# EAGLE library part CC-DEBUGGER (library BaseApp)
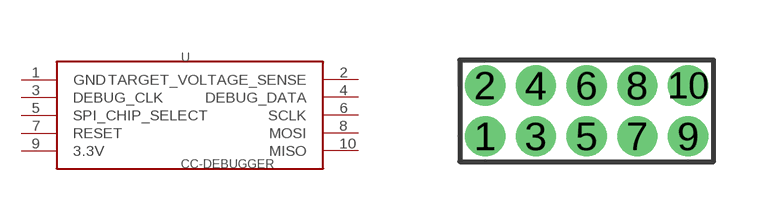
[diagram p105: symbol with the pads of PINHEAD-2X5-1.5MMPITCH; footprint PINHEAD-2X5-1.5MMPITCH]

Designator prefix -

## CC-DEBUGGER  [PINHEAD-2X5-1.5MMPITCH]
1  GND
2  TARGET_VOLTAGE_SENSE
3  DEBUG_CLK
4  DEBUG_DATA
5  SPI_CHIP_SELECT
6  SCLK
7  RESET
8  MOSI
9  3.3V
10  MISO

## Footprint PINHEAD-2X5-1.5MMPITCH (pad centres in mm)
drill 0.5: 1 -2.54,-0.635; 2 -2.54,0.635; 3 -1.27,-0.635; 4 -1.27,0.635; 5 0,-0.635; 6 0,0.635; 7 1.27,-0.635; 8 1.27,0.635; 9 2.54,-0.635; 10 2.54,0.635